# Altium footprint library con-4ucon.PCBLIB: 1 footprints
Each footprint in its own frame and in the unit in brackets; x right, y up, seen from the top. Pads: shape width x height; smd on the part's side, far side on the other; paste and mask are expansions set on the pad; w line width, h text height; cw(c..) or ccw(c..) is an arc to the next point about the centre after c.
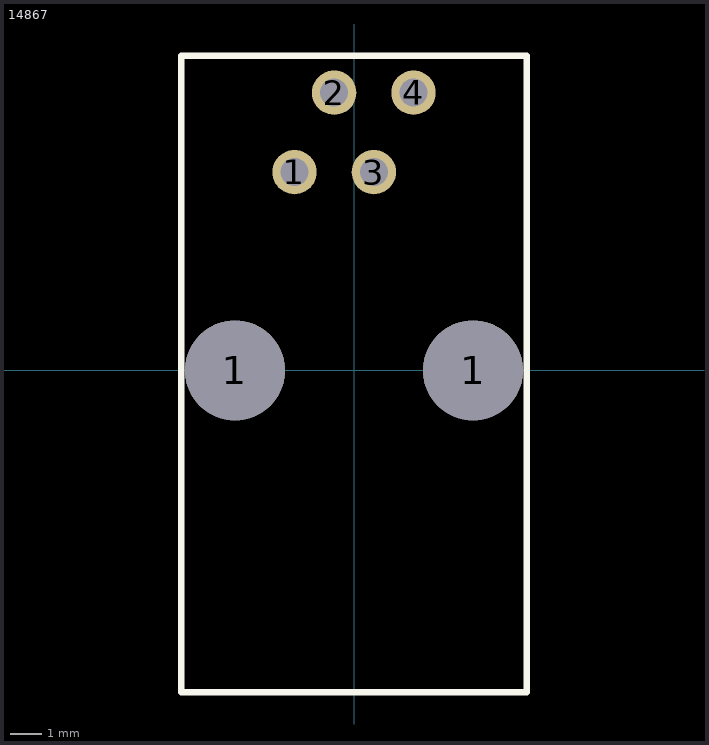
[diagram p0: the footprint, top view; thin cyan lines are the x and y axes]

## 14867 [mil]
pads (6):
  round 125.98 hole 125.98: 1(-150,0) 1(150,0)
  round 56 hole 35.43: 1(-75,250) 2(-25,350) 3(25,250) 4(75,350)
Top Overlay:
  lines w8: -217.91,-405.51 -217.91,396.46 217.91,396.46 217.91,-405.51 -217.91,-405.51